# Altium footprint library SOD-523.PCBLIB: 1 footprints
Each footprint in its own frame and in the unit in brackets; x right, y up, seen from the top. Pads: shape width x height; smd on the part's side, far side on the other; paste and mask are expansions set on the pad; w line width, h text height; cw(c..) or ccw(c..) is an arc to the next point about the centre after c.
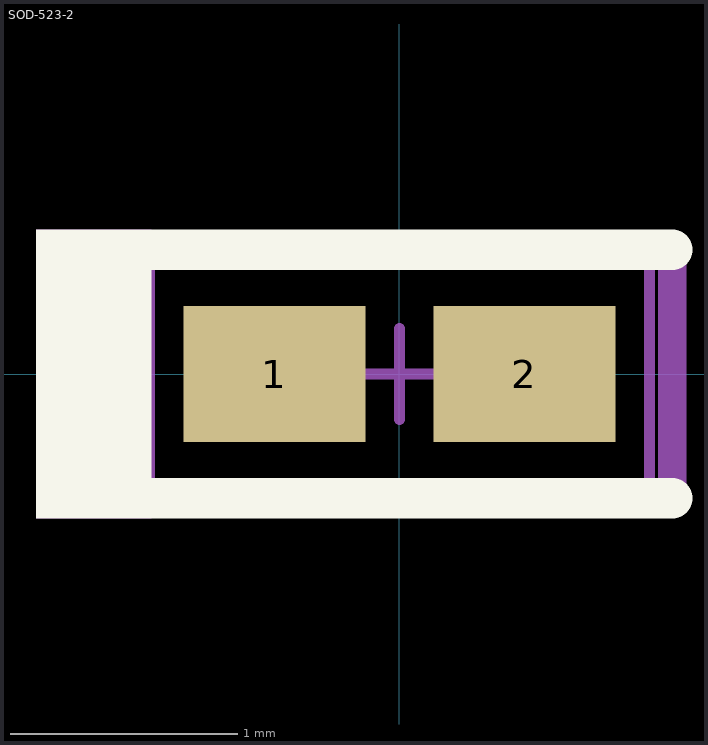
[diagram p0: the footprint, top view; thin cyan lines are the x and y axes]

## SOD-523-2 [mm] "NXP Semiconductor recommended land pattern, nominal STEP model"
height 0.7
pads (2):
  rect 0.8x0.6 smd paste-0.05: 1(-0.55,0) 2(0.55,0)
Top Overlay:
  rectangle: -1.6,-0.635 -1.092,0.635
  lines w0.178: -1.475,-0.546 0,-0.546 1.2,-0.546 ; -1.475,0.546 0,0.546 1.2,0.546
Top Assembly:
  rectangle: -1.6,-0.635 -1.092,0.635
  lines w0.127: -1.475,-0.546 0,-0.546 1.2,-0.546 1.2,0.546 0,0.546 -1.475,0.546
Top Courtyard:
  lines w0.05: -1.1,-0.5 -1.1,0.5 1.1,0.5 1.1,-0.5 -1.1,-0.5
Top Designator:
  text ".Designator" at -0.991,-0.279 h0.56
Top Component Center:
  lines w0.05: -0.2,0 0.2,0 ; 0,-0.2 0,0.2
3D body "SOD-523F.stp": height 0.72, standoff 0.02, extent -0.8,-0.399 0.8,0.399